# EAGLE library part MIC1232MY (library PP_FreqCtrl)
Manufacturer Part #: MIC1232MY Manufacturer: Microchip Technology / Micrel Description: Supervisory Circuits Microprocessor Supervisor with Manual Reset, Watchdog Timer, 4.37V or 4.62V Threshold Voltage, 250ms Reset Pulse, and Push-Pull Active-High and Low Outputs (DS1232)
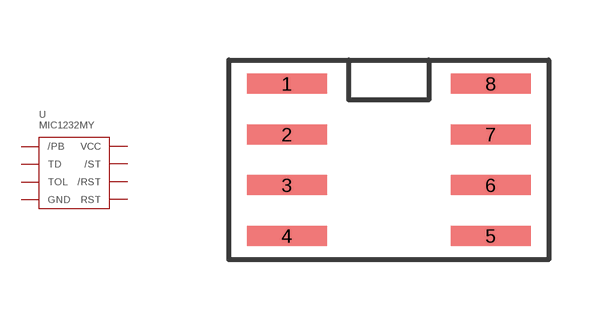
[diagram p0: symbol with the pads of MIC1232MY_SOIC-8; footprint MIC1232MY_SOIC-8]

Designator prefix U

## MIC1232MYSOIC-8  [MIC1232MY_SOIC-8]
1  /PB
2  TD
3  TOL
4  GND
5  RST
6  /RST
7  /ST
8  VCC

## Footprint MIC1232MY_SOIC-8 (pad centres in mm)
smd 2 x 0.5: 1 -2.55,1.905; 2 -2.55,0.635; 3 -2.55,-0.635; 4 -2.55,-1.905; 5 2.55,-1.905; 6 2.55,-0.635; 7 2.55,0.635; 8 2.55,1.905